# Altium footprint library G218CMF.PcbLib: 1 footprints
Each footprint in its own frame and in the unit in brackets; x right, y up, seen from the top. Pads: shape width x height; smd on the part's side, far side on the other; paste and mask are expansions set on the pad; w line width, h text height; cw(c..) or ccw(c..) is an arc to the next point about the centre after c.

## G218CMF [mm]
3D body "G218CMF_bottom.step": height 31.5, standoff -10, extent -28.835,-7.514 223.165,139.847